# Altium schematic symbol library MLT-8530.SchLib: 1 symbol
Pins are listed as number, name and electrical type; pins without a type are passive.

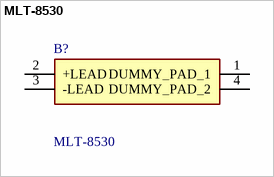
[diagram p0: symbol MLT-8530]

## MLT-8530
designator B?
Electro-Magnetic Buzzer (SMD Type); Manufacturer_Name: Jiangsu Huaneng Elec; Geometry.Height: 3mm; Manufacturer_Part_Number: MLT-8530; Mouser Part Number: *; Mouser Price/Stock: *; Arrow Part Number: *; Arrow Price/Stock: *; Datasheet Link: https://datasheet.lcsc.com/szlcsc/1811182003_Jiangsu-Huaneng-Elec-MLT-8530_C94599.pdf
footprint MLT8530
pins: 1 DUMMY_PAD_1, 2 +LEAD, 3 -LEAD, 4 DUMMY_PAD_2